# EAGLE library part LAMBDA80C-24S (library LAMBDA80C-24S)
RF Transceiver FSK 3.3V 16-Pin SMD Module Source: Datasheet <https://www.arrow.com/en/products/lambda80c-24s/rf-solutions>
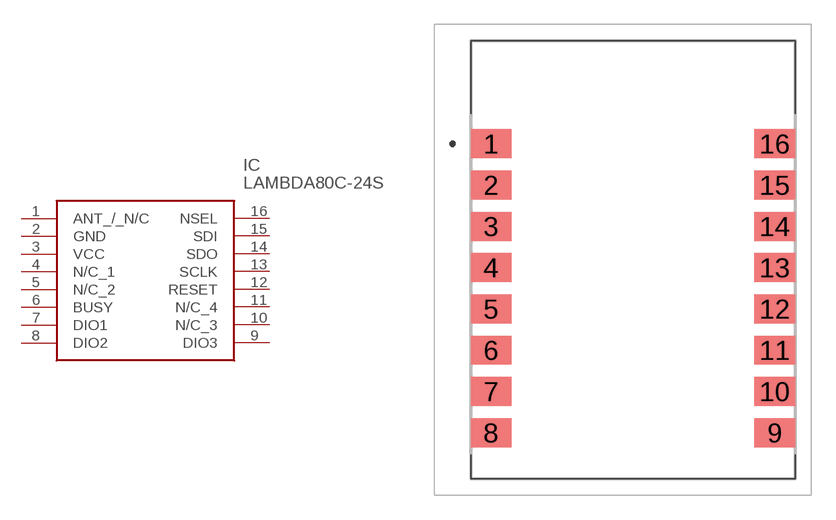
[diagram p0: symbol with the pads of LAMBDA80C24S; footprint LAMBDA80C24S]

Designator prefix IC

## LAMBDA80C-24S (Arrow_Part_Number: LAMBDA80C-24S; Arrow_Price-Stock: https://www.arrow.com/en/products/lambda80c-24s/rf-solutions; Description: RF Transceiver FSK 3.3V 16-Pin SMD Module; Height: 2mm; Manufacturer_Name: RF SOLUTIONS; Manufacturer_Part_Number: LAMBDA80C-24S; Mouser_Part_Number: 223-LAMBDA80C-24S; Mouser_Price-Stock: https://www.mouser.co.uk/ProductDetail/RF-Solutions/LAMBDA80C-24S?qs=17u8i%2FzlE89dhjIrlJ9FHg%3D%3D)  [LAMBDA80C24S]
1  ANT_/_N/C
2  GND
3  VCC
4  N/C_1
5  N/C_2
6  BUSY
7  DIO1
8  DIO2
9  DIO3
10  N/C_3
11  N/C_4
12  RESET
13  SCLK
14  SDO
15  SDI
16  NSEL

## Footprint LAMBDA80C24S (pad centres in mm)
LAMBDA80C-24S-3
smd 2.5 x 1.78: 1 -8.725,7.135; 2 -8.725,4.595; 3 -8.725,2.055; 4 -8.725,-0.485; 5 -8.725,-3.025; 6 -8.725,-5.565; 7 -8.725,-8.105; 8 -8.725,-10.645; 9 8.725,-10.645; 10 8.725,-8.105; 11 8.725,-5.565; 12 8.725,-3.025; 13 8.725,-0.485; 14 8.725,2.055; 15 8.725,4.595; 16 8.725,7.135